# EAGLE library part DS90C365A (library PP_DigitalIC)
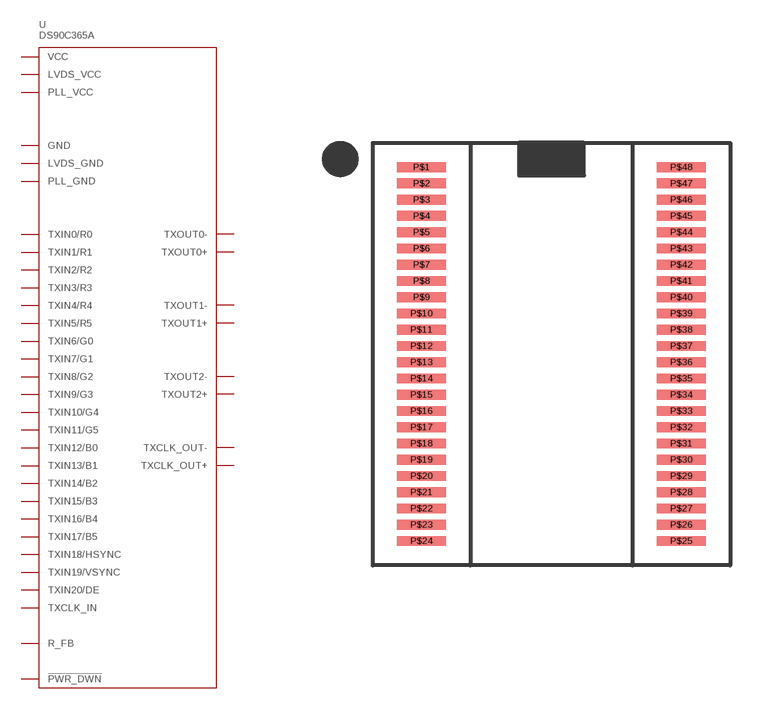
[diagram p31: symbol with the pads of DS90C365A_TSSOP-48; footprint DS90C365A_TSSOP-48]

Designator prefix U

## DS90C365A  [DS90C365A_TSSOP-48]
P$1  TXIN4/R4
P$2  VCC
P$3  TXIN5/R5
P$4  TXIN6/G0
P$5  GND
P$6  TXIN7/G1
P$7  TXIN8/G2
P$8  VCC
P$9  TXIN9/G3
P$10  TXIN10/G4
P$11  GND
P$12  TXIN11/G5
P$13  TXIN12/B0
P$14  R_FB
P$15  TXIN13/B1
P$16  TXIN14/B2
P$17  GND
P$18  TXIN15/B3
P$19  TXIN16/B4
P$20  TXIN17/B5
P$21  VCC
P$22  TXIN18/HSYNC
P$23  TXIN19/VSYNC
P$24  GND
P$25  TXIN20/DE
P$26  TXCLK_IN
P$27  !PWR_DWN
P$28  PLL_GND
P$29  PLL_VCC
P$30  PLL_GND
P$31  LVDS_GND
P$32  TXCLK_OUT+
P$33  TXCLK_OUT-
P$34  TXOUT2+
P$35  TXOUT2-
P$36  LVDS_GND
P$37  LVDS_VCC
P$38  TXOUT1+
P$39  TXOUT1-
P$40  TXOUT0+
P$41  TXOUT0-
P$42  LVDS_GND
P$44  TXIN0/R0
P$45  TXIN1/R1
P$46  GND
P$47  TXIN2/R2
P$48  TXIN3/R3

## Footprint DS90C365A_TSSOP-48 (pad centres in mm)
smd 1.5 x 0.3: P$1 -4,5.75; P$2 -4,5.25; P$3 -4,4.75; P$4 -4,4.25; P$5 -4,3.75; P$6 -4,3.25; P$7 -4,2.75; P$8 -4,2.25; P$9 -4,1.75; P$10 -4,1.25; P$11 -4,0.75; P$12 -4,0.25; P$13 -4,-0.25; P$14 -4,-0.75; P$15 -4,-1.25; P$16 -4,-1.75; P$17 -4,-2.25; P$18 -4,-2.75; P$19 -4,-3.25; P$20 -4,-3.75; P$21 -4,-4.25; P$22 -4,-4.75; P$23 -4,-5.25; P$24 -4,-5.75; P$25 4,-5.75; P$26 4,-5.25; P$27 4,-4.75; P$28 4,-4.25; P$29 4,-3.75; P$30 4,-3.25; P$31 4,-2.75; P$32 4,-2.25; P$33 4,-1.75; P$34 4,-1.25; P$35 4,-0.75; P$36 4,-0.25; P$37 4,0.25; P$38 4,0.75; P$39 4,1.25; P$40 4,1.75; P$41 4,2.25; P$42 4,2.75; P$43 4,3.25; P$44 4,3.75; P$45 4,4.25; P$46 4,4.75; P$47 4,5.25; P$48 4,5.75